# EAGLE library part OKL-T/6-W12N-C (library 180118 Library by matsu)
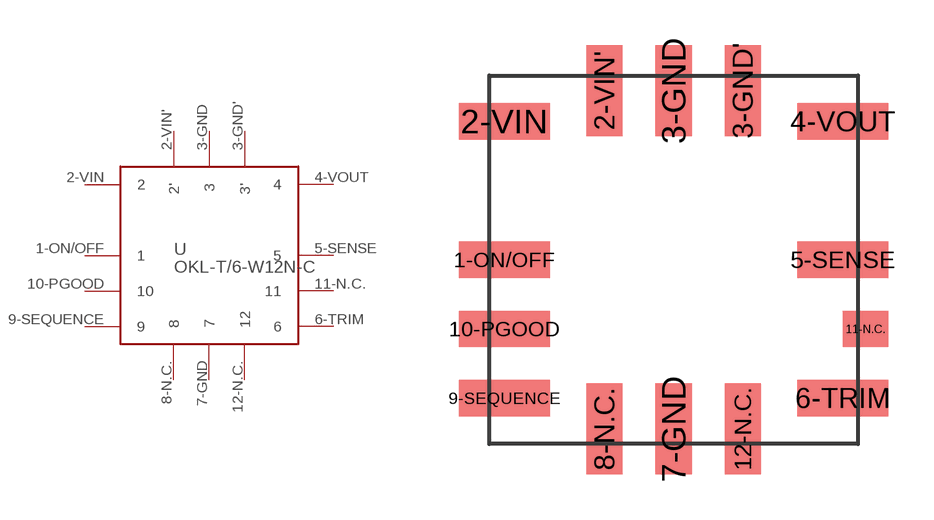
[diagram p35: symbol with the pads of OKL; footprint OKL]

Designator prefix -

## OKL-T/6-W12N-C  [OKL]
1-ON/OFF  1
2-VIN  2
2-VIN'  2'
3-GND  3
3-GND'  3'
4-VOUT  4
5-SENSE  5
6-TRIM  6
7-GND  7
8-N.C.  8
9-SEQUENCE  9
10-PGOOD  10
11-N.C.  11
12-N.C.  12

## Footprint OKL (pad centres in mm)
smd 3 x 1.2: 1-ON/OFF -5.6,0; 2-VIN -5.6,4.58; 4-VOUT 5.6,4.58; 5-SENSE 5.6,0; 6-TRIM 5.6,-4.58; 9-SEQUENCE -5.6,-4.58; 10-PGOOD -5.6,-2.29
smd 1.2 x 3: 2-VIN' -2.29,5.6; 3-GND 0,5.6; 3-GND' 2.29,5.6; 7-GND 0,-5.6; 8-N.C. -2.29,-5.6; 12-N.C. 2.29,-5.6
smd 1.5 x 1.2: 11-N.C. 6.35,-2.29